# Altium footprint library TSOT-23-6.PcbLib: 1 footprints
Each footprint in its own frame and in the unit in brackets; x right, y up, seen from the top. Pads: shape width x height; smd on the part's side, far side on the other; paste and mask are expansions set on the pad; w line width, h text height; cw(c..) or ccw(c..) is an arc to the next point about the centre after c.
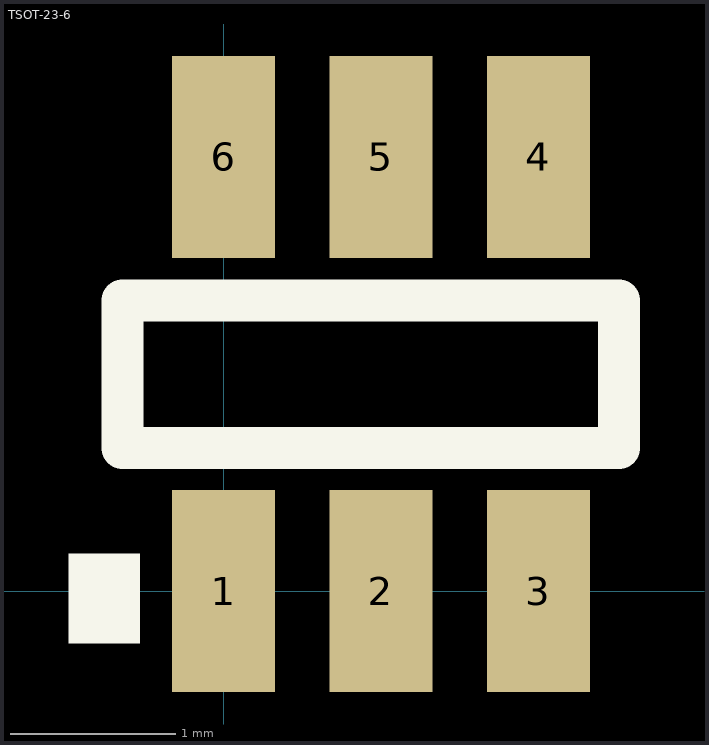
[diagram p0: the footprint, top view; thin cyan lines are the x and y axes]

## TSOT-23-6 [mm]
pads (6):
  rect 0.62x1.22 smd: 1(0,0) 2(0.95,0) 3(1.9,0) 4(1.9,2.62) 5(0.95,2.62) 6(0,2.62)
Top Overlay:
  rectangle: -0.935,-0.317 -0.503,0.226
  lines w0.254: -0.61,0.864 2.388,0.864 2.388,1.753 -0.61,1.753 -0.61,0.864
3D body: height 0.86, standoff 0, extent -0.55,-0.085 2.45,2.725